# EAGLE library part LTC6241 (library LTC624x)
Low Input Bias RROut Op-amp LTC6241 - 2 gates Input Bias Current: 0.2pA @ 25°, 1pA Max Rail-to-rail output Input voltage range: 0 to Vdd-1.5v Supply range: 2.8v to 6v (11v for 'HV' variant)
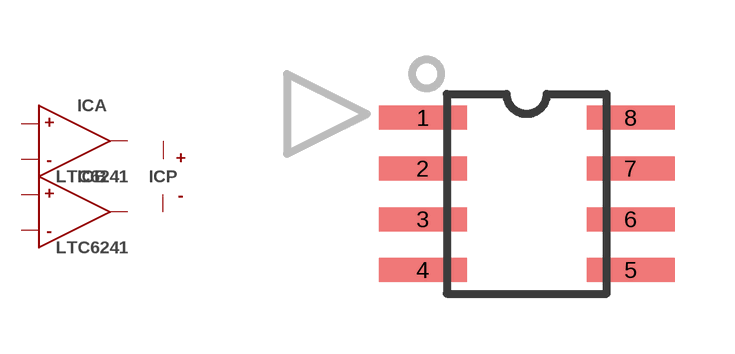
[diagram p0: symbol with the pads of SOIC8; footprint SOIC8]

Designator prefix IC; gates A=OP-AMP B=OP-AMP P=PWR

## LTC6241CS8  [SOIC8]
1  A:OUT  out
2  A:INN  in
3  A:INP  in
4  P:GND  pwr
5  B:INP  in
6  B:INN  in
7  B:OUT  out
8  P:VDD  pwr

## Footprint SOIC8 (pad centres in mm)
smd 2.2 x 0.6: 1 -2.6,1.905; 2 -2.6,0.635; 3 -2.6,-0.635; 4 -2.6,-1.905; 5 2.6,-1.905; 6 2.6,-0.635; 7 2.6,0.635; 8 2.6,1.905